# Altium footprint library IR Rectifier - Bridge.PcbLib: 6 footprints
Each footprint in its own frame and in the unit in brackets; x right, y up, seen from the top. Pads: shape width x height; smd on the part's side, far side on the other; paste and mask are expansions set on the pad; w line width, h text height; cw(c..) or ccw(c..) is an arc to the next point about the centre after c.
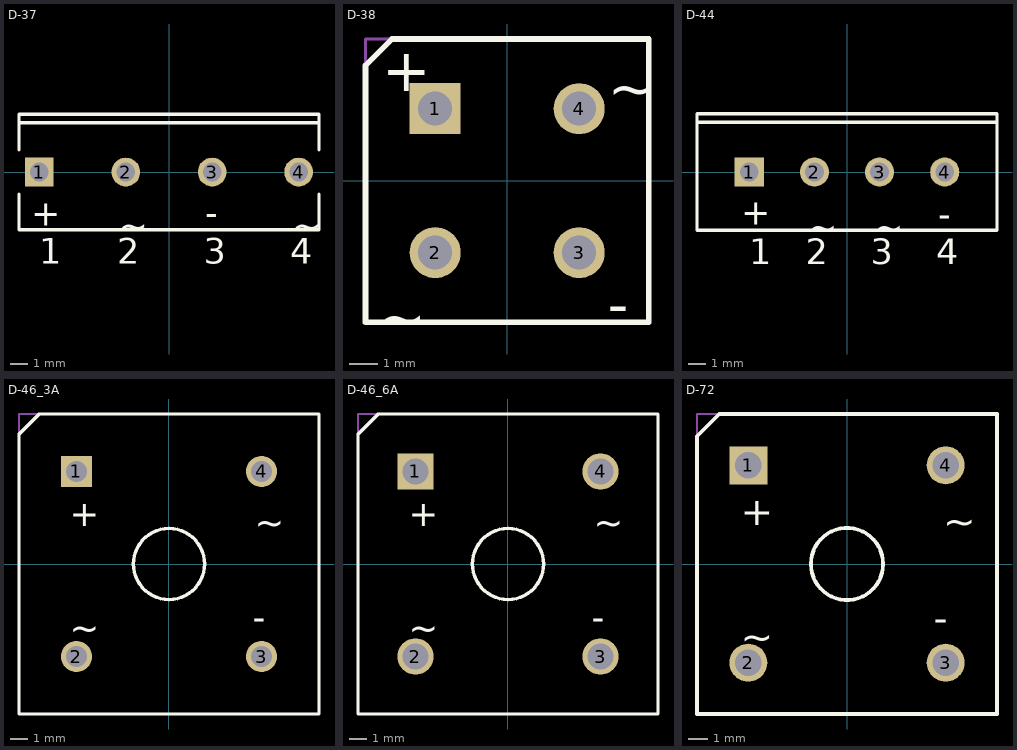
[diagram p0: the footprints below, top view; thin cyan lines are the x and y axes]

## D-37 [mm] "SIP; 4 Leads; Body 15 x 17.5 x 6.8 mm (typ); Pitch 5.1 mm"
height 15
pads (4):
  rect 1.7x1.7 hole 1.1: 1(-7.65,0)
  round 1.7 hole 1.1: 2(-2.55,0) 3(2.55,0) 4(7.65,0)
Top Overlay:
  lines w0.2: -8.85,-1.3 -8.85,-3.4 8.85,-3.4 8.85,-1.3 ; -8.85,1.3 -8.85,3.4 8.85,3.4 8.85,1.3 ; -8.85,2.9 8.85,2.9
  text "~" at 7.27,-3.9 h1.5
  text "~" at -2.97,-3.9 h1.5
  text "+" at -8.14,-3.16 h1.5
  text "-" at 2.13,-3.15 h1.5
  text "4" at 7.142,-5.4 h1.5
  text "3" at 2.042,-5.4 h1.5
  text "2" at -3.058,-5.4 h1.5
  text "1" at -7.65,-5.4 h1.5

## D-38 [mm] "Bridge Rectifier; 4 Terminals; Body 9.4 x 9.4 mm (typ); Pitch 5.08 mm"
height 9.91
pads (4):
  rect 1.8x1.8 hole 1.2: 1(-2.54,2.54)
  round 1.8 hole 1.2: 2(-2.54,-2.54) 3(2.54,-2.54) 4(2.54,2.54)
Top Overlay:
  lines w0.2: -5,-5 5,-5 5,5 -4.064,5 -5,4.064 -5,-5
  text "~" at 3.556,2.54 h1.5
  text "~" at -4.572,-5.588 h1.5
  text "-" at 3.556,-5.08 h1.5
  text "+" at -4.41,3.164 h1.5
Mechanical 13:
  lines w0.1: -5,-5 5,-5 5,5 -5,5 -5,-5
3D body: height 9.91, standoff 0, extent -5,-5 5,5

## D-44 [mm] "SIP; 4 Leads; Body 15 x 17.5 x 6.8 mm (typ); Pitch 3.8 mm"
height 15
pads (4):
  rect 1.7x1.7 hole 1.1: 1(-5.7,0)
  round 1.7 hole 1.1: 2(-1.9,0) 3(1.9,0) 4(5.7,0)
Top Overlay:
  lines w0.2: -8.75,2.9 8.75,2.9 ; -8.75,-3.4 8.75,-3.4 8.75,3.4 -8.75,3.4 -8.75,-3.4
  text "-" at 5.32,-3.19 h1.5
  text "+" at -6.18,-3.08 h1.5
  text "~" at 1.6,-3.94 h1.5
  text "~" at -2.27,-3.94 h1.5
  text "1" at -5.7,-5.38 h1.5
  text "2" at -2.408,-5.38 h1.5
  text "3" at 1.392,-5.38 h1.5
  text "4" at 5.192,-5.38 h1.5

## D-46_3A [mm] "Bridge Rectifier; 4 Terminals; Body 16.8 x 16.8 mm (typ); Pitch 10.67 mm"
height 6.35
pads (4):
  rect 1.8x1.8 hole 1.2: 1(-5.335,5.335)
  round 1.8 hole 1.2: 2(-5.335,-5.335) 3(5.335,-5.335) 4(5.335,5.335)
Top Overlay:
  circle w0.2: c0,0 r2.05
  lines w0.2: -8.65,-8.65 8.65,-8.65 8.65,8.65 -7.474,8.65 -8.65,7.474 -8.65,-8.65
  text "~" at -5.723,-4.437 h1.5
  text "~" at 4.945,1.659 h1.5
  text "-" at 4.825,-3.809 h1.5
  text "+" at -5.723,2.167 h1.5
Mechanical 13:
  lines w0.1: -8.65,-8.65 -8.65,8.65 8.65,8.65 8.65,-8.65 -8.65,-8.65
3D body: height 6.35, standoff 0, extent -8.65,-8.65 8.65,8.65

## D-46_6A [mm] "Bridge Rectifier; 4 Terminals; Body 16.8 x 16.8 mm (typ); Pitch 10.67 mm"
height 6.35
pads (4):
  rect 2.1x2.1 hole 1.5: 1(-5.335,5.335)
  round 2.1 hole 1.5: 2(-5.335,-5.335) 3(5.335,-5.335) 4(5.335,5.335)
Top Overlay:
  circle w0.2: c0,0 r2.05
  lines w0.2: -8.65,-8.65 8.65,-8.65 8.65,8.65 -7.474,8.65 -8.65,7.474 -8.65,-8.65
  text "~" at -5.723,-4.437 h1.5
  text "~" at 4.945,1.659 h1.5
  text "-" at 4.825,-3.809 h1.5
  text "+" at -5.723,2.167 h1.5
Mechanical 13:
  lines w0.1: -8.65,-8.65 -8.65,8.65 8.65,8.65 8.65,-8.65 -8.65,-8.65
3D body: height 6.35, standoff 0, extent -8.65,-8.65 8.65,8.65

## D-72 [mm] "Bridge Rectifier; 4 Terminals; Body 15.2 x 15.2 mm (typ); Pitch 10.4 mm"
height 5.34
pads (4):
  rect 2x2 hole 1.4: 1(-5.2,5.2)
  round 2 hole 1.4: 2(-5.2,-5.2) 3(5.2,-5.2) 4(5.2,5.2)
Top Overlay:
  circle w0.2: c0,0 r1.9
  lines w0.2: -7.9,-7.9 -7.9,6.724 -6.724,7.9 7.9,7.9 7.9,-7.9 -7.9,-7.9
  text "+" at -5.588,2.032 h1.5
  text "-" at 4.572,-3.556 h1.5
  text "~" at 5.08,1.524 h1.5
  text "~" at -5.588,-4.572 h1.5
Mechanical 13:
  lines w0.1: -7.9,-7.9 -7.9,7.9 7.9,7.9 7.9,-7.9 -7.9,-7.9
3D body: height 5.34, standoff 0, extent -7.9,-7.9 7.9,7.9